# Altium footprint library Crystal.PcbLib: 2 footprints
Each footprint in its own frame and in the unit in brackets; x right, y up, seen from the top. Pads: shape width x height; smd on the part's side, far side on the other; paste and mask are expansions set on the pad; w line width, h text height; cw(c..) or ccw(c..) is an arc to the next point about the centre after c.
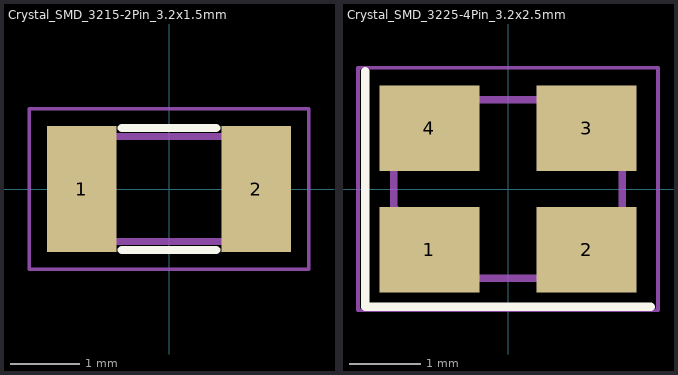
[diagram p0: the footprints below, top view; thin cyan lines are the x and y axes]

## Crystal_SMD_3215-2Pin_3.2x1.5mm [mm]
pads (2):
  rect 1x1.8 smd: 1(-1.25,0) 2(1.25,0)
Top Overlay:
  lines w0.12: -0.675,-0.875 0.675,-0.875 ; -0.675,0.875 0.675,0.875
Mechanical 13:
  lines w0.1: -1.6,-0.75 -1.6,0.75 1.6,0.75 1.6,-0.75 -1.6,-0.75
Mechanical 15:
  lines w0.05: -2,-1.15 2,-1.15 2,1.15 -2,1.15 -2,-1.15
3D body "User Library-NDK_NX3215SA.STEP": height 0.8, standoff 0, extent -1.6,-0.75 1.6,0.75

## Crystal_SMD_3225-4Pin_3.2x2.5mm [mm]
pads (4):
  rect 1.4x1.2 smd: 1(-1.1,-0.85) 2(1.1,-0.85) 3(1.1,0.85) 4(-1.1,0.85)
Top Overlay:
  lines w0.12: -2,1.65 -2,-1.65 2,-1.65
Mechanical 13:
  lines w0.1: -1.6,-0.25 -1.6,1.25 1.6,1.25 1.6,-1.25 -0.6,-1.25 -1.6,-0.25
Mechanical 15:
  lines w0.05: -2.1,-1.7 -2.1,1.7 2.1,1.7 2.1,-1.7 -2.1,-1.7
3D body "Crystal_SMD_3225-4Pin_3.2x2.5mm.step": height 0.64, standoff 0, extent -1.599,-1.251 1.601,1.25